# EAGLE library part IPS1-115-01-L-D-XX_S (library con-samtec-ips1)
RECEPTACAL
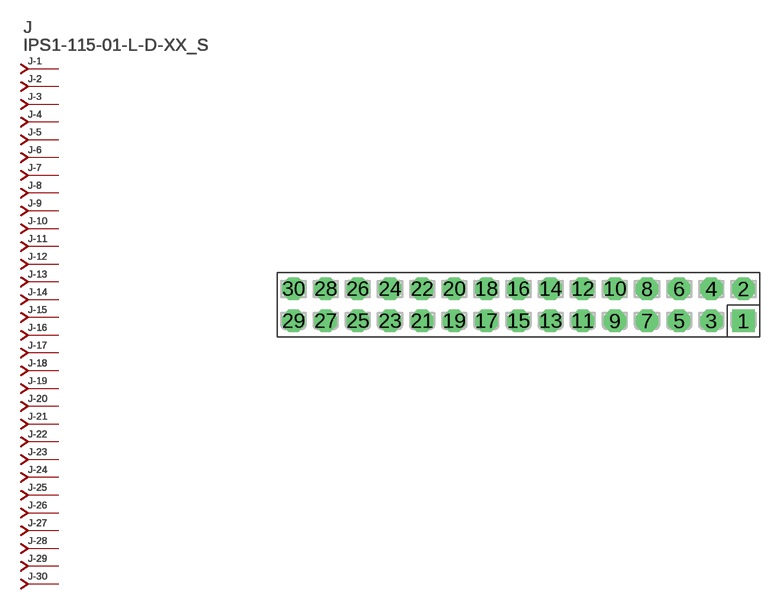
[diagram p13: symbol with the pads of IPS1-115; footprint IPS1-115]

Designator prefix J; gates -1=J-NV -2=J-N -3=J-N -4=J-N -5=J-N -6=J-N -7=J-N -8=J-N -9=J-N -10=J-N -11=J-N -12=J-N -13=J-N -14=J-N -15=J-N -16=J-N -17=J-N -18=J-N -19=J-N -20=J-N -21=J-N -22=J-N -23=J-N -24=J-N -25=J-N -26=J-N -27=J-N -28=J-N -29=J-N -30=J-N

## IPS1-115-01-L-D-XX_S  [IPS1-115]
1  -1:J  pas
2  -2:J  pas
3  -3:J  pas
4  -4:J  pas
5  -5:J  pas
6  -6:J  pas
7  -7:J  pas
8  -8:J  pas
9  -9:J  pas
10  -10:J  pas
11  -11:J  pas
12  -12:J  pas
13  -13:J  pas
14  -14:J  pas
15  -15:J  pas
16  -16:J  pas
17  -17:J  pas
18  -18:J  pas
19  -19:J  pas
20  -20:J  pas
21  -21:J  pas
22  -22:J  pas
23  -23:J  pas
24  -24:J  pas
25  -25:J  pas
26  -26:J  pas
27  -27:J  pas
28  -28:J  pas
29  -29:J  pas
30  -30:J  pas

## Footprint IPS1-115 (pad centres in mm)
RECEPTACAL
drill 0.914 pad 1.778 square: 1 17.78,-1.27
drill 0.914 pad 1.778 octagon: 2 17.78,1.27; 3 15.24,-1.27; 4 15.24,1.27; 5 12.7,-1.27; 6 12.7,1.27; 7 10.16,-1.27; 8 10.16,1.27; 9 7.62,-1.27; 10 7.62,1.27; 11 5.08,-1.27; 12 5.08,1.27; 13 2.54,-1.27; 14 2.54,1.27; 15 0,-1.27; 16 0,1.27; 17 -2.54,-1.27; 18 -2.54,1.27; 19 -5.08,-1.27; 20 -5.08,1.27; 21 -7.62,-1.27; 22 -7.62,1.27; 23 -10.16,-1.27; 24 -10.16,1.27; 25 -12.7,-1.27; 26 -12.7,1.27; 27 -15.24,-1.27; 28 -15.24,1.27; 29 -17.78,-1.27; 30 -17.78,1.27